# Altium footprint library MCSJK-7U-24.00.PcbLib: 1 footprints
Each footprint in its own frame and in the unit in brackets; x right, y up, seen from the top. Pads: shape width x height; smd on the part's side, far side on the other; paste and mask are expansions set on the pad; w line width, h text height; cw(c..) or ccw(c..) is an arc to the next point about the centre after c.
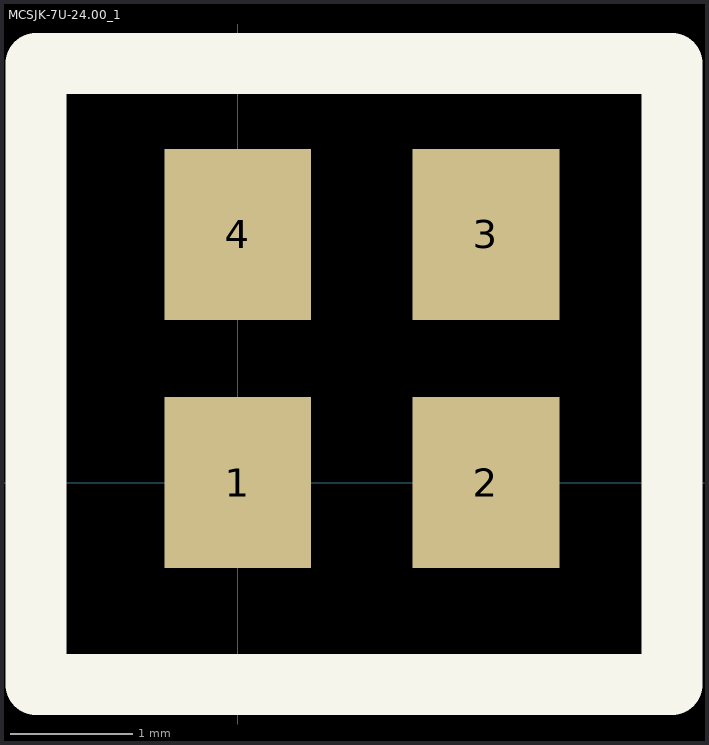
[diagram p0: the footprint, top view; thin cyan lines are the x and y axes]

## MCSJK-7U-24.00_1 [mm]
pads (4):
  rect 1.2x1.4 smd: 1(0,0) 2(2.032,0) 3(2.032,2.032) 4(0,2.032)
Top Overlay:
  lines w0.5: -1.651,-1.651 3.556,-1.651 3.556,3.429 -1.651,3.429 -1.651,-1.651